# Altium schematic symbol library Oscylator.SchLib: 2 symbols
Pins are listed as number, name and electrical type; pins without a type are passive.

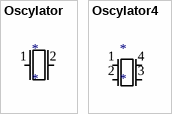
[diagram p0: symbols Oscylator to Oscylator4]

## Oscylator
designator *
pins: 1, 2

## Oscylator4
designator *
pins: 1, 2, 3, 4